# EAGLE library part PINS (library connectors)
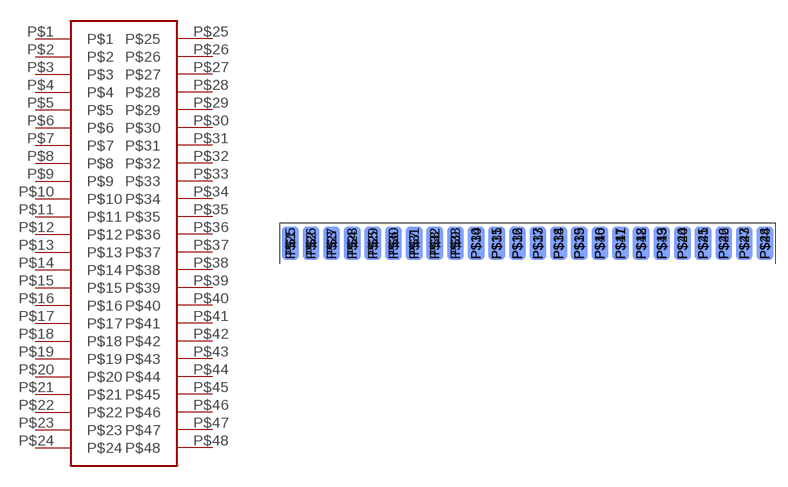
[diagram p1: symbol with the pads of PINHEADS_DS_BOARD; footprint PINHEADS_DS_BOARD]

Designator prefix -

## PINS  [PINHEADS_DS_BOARD]
P$1  P$1
P$2  P$2
P$3  P$3
P$4  P$4
P$5  P$5
P$6  P$6
P$7  P$7
P$8  P$8
P$9  P$9
P$10  P$10
P$11  P$11
P$12  P$12
P$13  P$13
P$14  P$14
P$15  P$15
P$16  P$16
P$17  P$17
P$18  P$18
P$19  P$19
P$20  P$20
P$21  P$21
P$22  P$22
P$23  P$23
P$24  P$24
P$25  P$25
P$26  P$26
P$27  P$27
P$28  P$28
P$29  P$29
P$30  P$30
P$31  P$31
P$32  P$32
P$33  P$33
P$34  P$34
P$35  P$35
P$36  P$36
P$37  P$37
P$38  P$38
P$39  P$39
P$40  P$40
P$41  P$41
P$42  P$42
P$43  P$43
P$44  P$44
P$45  P$45
P$46  P$46
P$47  P$47
P$48  P$48

## Footprint PINHEADS_DS_BOARD (pad centres in mm)
smd 2.032 x 4.064: P$1 0,0; P$2 2.54,0; P$3 5.08,0; P$4 7.62,0; P$5 10.16,0; P$6 12.7,0; P$7 15.24,0; P$8 17.78,0; P$9 20.32,0; P$10 22.86,0; P$11 25.4,0; P$12 27.94,0; P$13 30.48,0; P$14 33.02,0; P$15 35.56,0; P$16 38.1,0; P$17 40.64,0; P$18 43.18,0; P$19 45.72,0; P$20 48.26,0; P$21 50.8,0; P$22 53.34,0; P$23 55.88,0; P$24 58.42,0
smd 2.032 x 4.064 bottom: P$25 0,0; P$26 2.54,0; P$27 5.08,0; P$28 7.62,0; P$29 10.16,0; P$30 12.7,0; P$31 15.24,0; P$32 17.78,0; P$33 20.32,0; P$34 22.86,0; P$35 25.4,0; P$36 27.94,0; P$37 30.48,0; P$38 33.02,0; P$39 35.56,0; P$40 38.1,0; P$41 40.64,0; P$42 43.18,0; P$43 45.72,0; P$44 48.26,0; P$45 50.8,0; P$46 53.34,0; P$47 55.88,0; P$48 58.42,0